# EAGLE library part SPECIALTY-LEDS_IN-P55QSTGRGBW (library P-LED-0003-V1A EAGLE Library)
The IN-P55QSTGRGBW is PLCC8 Slug 0.5w RGBW LED. It is a SMD type LED which can be used in various applications.
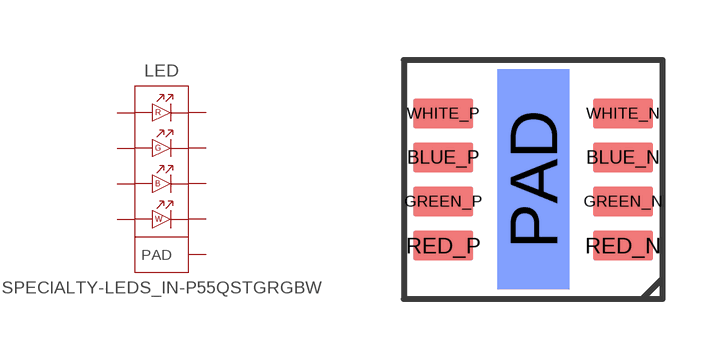
[diagram p0: symbol with the pads of SPECIALTY-LEDS_IN-P55QSTGRGBW; footprint SPECIALTY-LEDS_IN-P55QSTGRGBW]

Designator prefix LED

## SPECIALTY-LEDS_IN-P55QSTGRGBWPLCC8  [SPECIALTY-LEDS_IN-P55QSTGRGBW]
BLUE_N  BLUE_N  out
BLUE_P  BLUE_P  in
GREEN_N  GREEN_N  out
GREEN_P  GREEN_P  in
PAD  PAD  pas
RED_N  RED_N  out
RED_P  RED_P  in
WHITE_N  WHITE_N  out
WHITE_P  WHITE_P  in

## Footprint SPECIALTY-LEDS_IN-P55QSTGRGBW (pad centres in mm)
5.4mm x 5.0mm PLCC8 Slug RGBW LED with thermal pad. NOTE: Footprint assumes use of a one-layer copper substrate PCB with direct heatsink connection, bottom layer shall be used for fabrication of direct heatsink pads.
smd 1.5 x 0.75: BLUE_N 2.25,0.55; BLUE_P -2.25,0.55; GREEN_N 2.25,-0.55; GREEN_P -2.25,-0.55; RED_N 2.25,-1.65; RED_P -2.25,-1.65; WHITE_N 2.25,1.65; WHITE_P -2.25,1.65
smd 1.8 x 5.5 bottom: PAD 0,0